# Altium integrated library 2024-11-27_20-40-21.IntLib: 1 symbol
Pins are listed as number, name and electrical type; pins without a type are passive.

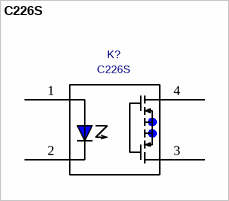
[diagram p0: symbol C226S]

## C226S
designator K?
Mfr_Name: Coto; Value: Solid State Relays; C: Copyright (C) 2021 Accelerated Designs. All rights reserved; Copyright: Copyright (C) 2024 Ultra Librarian. All rights reserved.; Manufacturer_Part_Number: C226S; Digi-Key_Part_Number_1: 306-1358-ND
footprint C226S_COT
pins: 1, 2, 3, 4